# Altium integrated library FG28C0G1H560JNT06.IntLib: 1 symbol
Pins are listed as number, name and electrical type; pins without a type are passive.

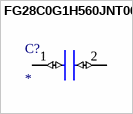
[diagram p0: symbol FG28C0G1H560JNT06]

## FG28C0G1H560JNT06
designator C?
56pF Â±5% 50V Ceramic Capacitor C0G, NP0 Radial; MP: FG28C0G1H560JNT06; MF: TDK; Availability: Warning; SnapEDA_Link: https://www.snapeda.com/parts/FG28C0G1H560JNT06/TDK/view-part/1920607/?ref=snap; Price: None; Check_prices: https://www.snapeda.com/parts/FG28C0G1H560JNT06/TDK/view-part/1920607/?ref=eda; Package: Radial TDK Corporation; Purchase-URL: https://pricing.snapeda.com/search/part/FG28C0G1H560JNT06/?ref=eda; Value: *
footprint CAPPRD500W50D400H550
pins: 1 POS (io), 2 NEG (io)